# EAGLE library part RDM6300-UART (library jpg-rfid)
125Khz RFID module - UART
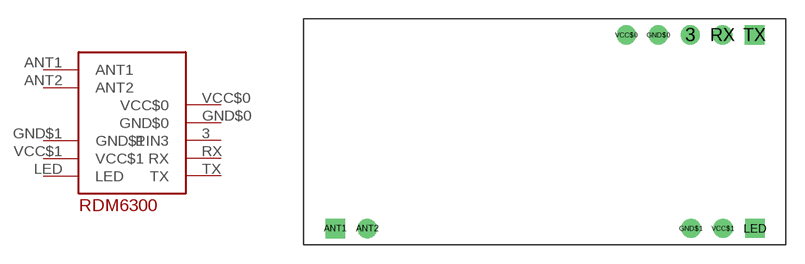
[diagram p0: symbol with the pads of RDM6300-UART; footprint RDM6300-UART]

Designator prefix -

## RDM6300-UART  [RDM6300-UART]
3  PIN3
ANT1  ANT1
ANT2  ANT2
GND$0  GND$0
GND$1  GND$1
LED  LED
RX  RX
TX  TX
VCC$0  VCC$0
VCC$1  VCC$1

## Footprint RDM6300-UART (pad centres in mm)
125Khz RFID module - UART
drill 1.016: 3 11.57,7.69; ANT2 -14.07,-7.69; GND$0 9.03,7.69; GND$1 11.61,-7.68; RX 14.11,7.69; VCC$0 6.49,7.69; VCC$1 14.15,-7.68
drill 1.016 square: ANT1 -16.61,-7.69; LED 16.69,-7.68; TX 16.65,7.69